# Altium footprint library SOP16.PcbLib: 1 footprints
Each footprint in its own frame and in the unit in brackets; x right, y up, seen from the top. Pads: shape width x height; smd on the part's side, far side on the other; paste and mask are expansions set on the pad; w line width, h text height; cw(c..) or ccw(c..) is an arc to the next point about the centre after c.
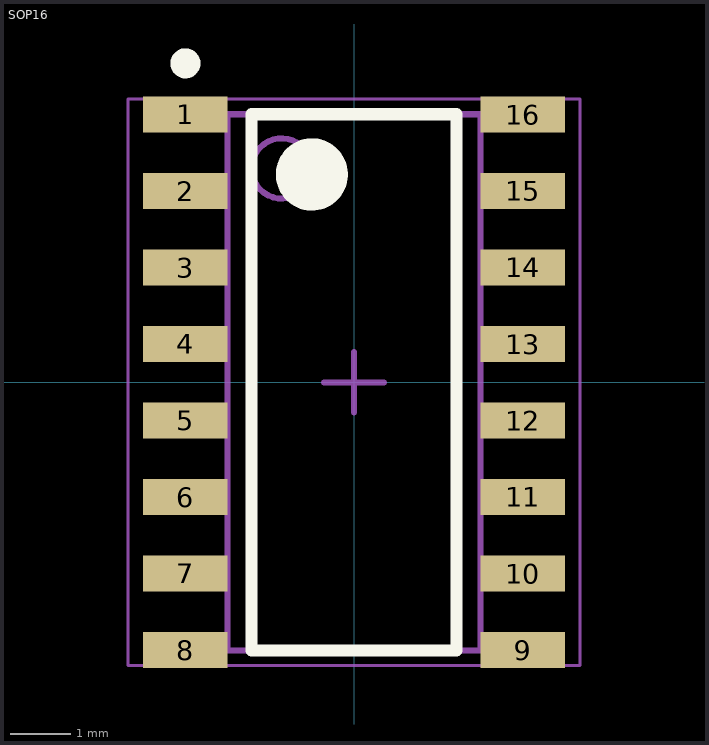
[diagram p0: the footprint, top view; thin cyan lines are the x and y axes]

## SOP16 [mm] "SOP, 16-Leads, Body 8.55x3.95mm, Pitch 1.27mm, IPC Medium Density"
height 1.7
pads (16):
  rect 1.4x0.6 smd: 1(-2.8,4.445) 2(-2.8,3.175) 3(-2.8,1.905) 4(-2.8,0.635) 5(-2.8,-0.635) 6(-2.8,-1.905) 7(-2.8,-3.175) 8(-2.8,-4.445) 9(2.8,-4.445) 10(2.8,-3.175) 11(2.8,-1.905) 12(2.8,-0.635) 13(2.8,0.635) 14(2.8,1.905) 15(2.8,3.175) 16(2.8,4.445)
Top Overlay:
  circle w0.6: c-0.7,3.45 r0.3
  circle w0.25: c-2.8,5.295 r0.125
  lines w0.2: -1.7,-4.45 1.7,-4.45 1.7,4.45 -1.7,4.45 -1.7,-4.45
Mechanical 13:
  circle w0.1: c-1.2,3.55 r0.5
  lines w0.1: -2.1,-4.45 2.1,-4.45 2.1,4.45 -2.1,4.45 -2.1,-4.45
Mechanical 15:
  lines w0.05: -3.75,-4.7 3.75,-4.7 3.75,4.7 -3.75,4.7 -3.75,-4.7
  lines w0.1: -0.5,0 0.5,0 ; 0,-0.5 0,0.5
3D body: height 1.7, standoff 0.08, extent -2.1,-4.45 2.1,4.45